# EAGLE library part MCP602 (library smd-ipc)
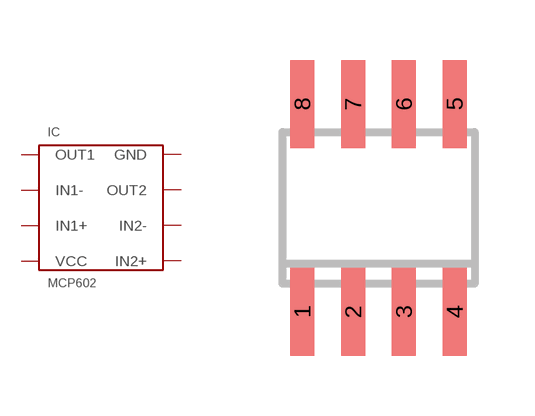
[diagram p0: symbol with the pads of SO08; footprint SO08]

Designator prefix IC

## MCP602  [SO08]
1  OUT1  out
2  IN1-  in
3  IN1+  in
4  VCC  pwr
5  IN2+  in
6  IN2-  in
7  OUT2  out
8  GND  pwr

## Footprint SO08 (pad centres in mm)
SMALL OUTLINE INTEGRATED CIRCUIT body 3.9 mm/JEDEC MS-012AA
smd 0.6 x 2.2: 1 -1.905,-2.6; 2 -0.635,-2.6; 3 0.635,-2.6; 4 1.905,-2.6; 5 1.905,2.6; 6 0.635,2.6; 7 -0.635,2.6; 8 -1.905,2.6